# EAGLE library part MS5611 (library Pinoccio)
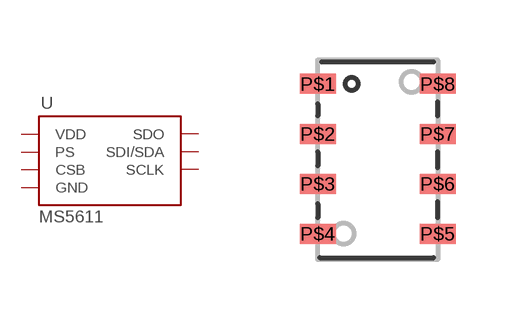
[diagram p36: symbol with the pads of MS5611; footprint MS5611]

Designator prefix -

## MS5611  [MS5611]
P$1  VDD
P$2  PS
P$3  GND
P$4  CSB
P$5  CSB
P$6  SDO
P$7  SDI/SDA
P$8  SCLK

## Footprint MS5611 (pad centres in mm)
smd 0.9 x 0.5: P$1 0,4.4; P$2 0,3.15; P$3 0,1.9; P$4 0,0.65; P$5 3,0.65; P$6 3,1.9; P$7 3,3.15; P$8 3,4.4